# EAGLE library part GKICD01SMD (library 029000100  -  gKEagleLibrary)
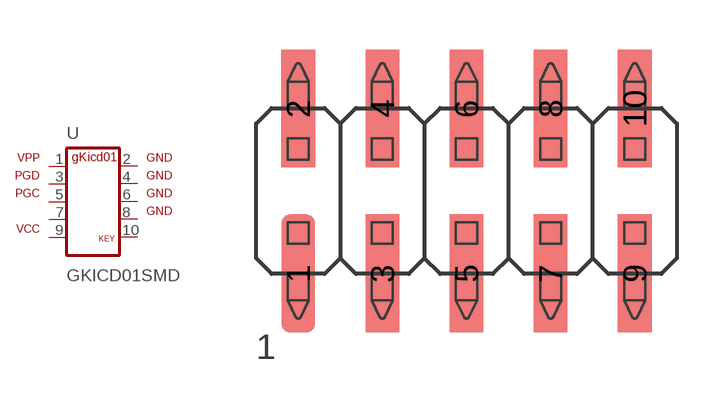
[diagram p12: symbol with the pads of HEAD10SMD; footprint HEAD10SMD]

Designator prefix -

## GKICD01SMD  [HEAD10SMD]
1  VPP  pas
2  2  pwr
3  PGD  pas
4  4  pwr
5  PGC  pas
6  6  pwr
7  NC  nc
8  8  pwr
9  VCC  pwr
10  KEY  nc

## Footprint HEAD10SMD (pad centres in mm)
smd 1.016 x 3.556: 1 -5.08,-2.488; 2 -5.08,2.488; 3 -2.54,-2.488; 4 -2.54,2.488; 5 0,-2.488; 6 0,2.488; 7 2.54,-2.488; 8 2.54,2.488; 9 5.08,-2.488; 10 5.08,2.488